# Altium integrated library TL081CD.IntLib: 1 symbol
Pins are listed as number, name and electrical type; pins without a type are passive.

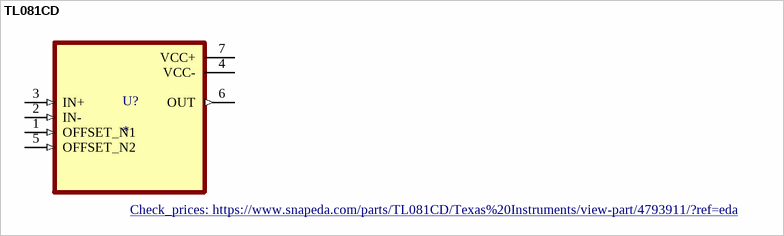
[diagram p0: symbol TL081CD]

## TL081CD
designator U?
High Slew Rate JFET-Input Operational Amplifier 8-SOIC 0 to 70; MP: TL081CD; MF: Texas Instruments; Package: SOIC-8 Texas Instruments; SnapEDA_Link: https://www.snapeda.com/parts/TL081CD/Texas%20Instruments/view-part/4793911/?ref=snap; Availability: Good; Price: None; Value: *; Purchase-URL: https://pricing.snapeda.com/search/part/TL081CD/?ref=eda; Check_prices: https://www.snapeda.com/parts/TL081CD/Texas%20Instruments/view-part/4793911/?ref=eda
footprint SOIC127P599X175-8N
pins: 1 OFFSET_N1 (in), 2 IN- (in), 3 IN+ (in), 4 VCC- (power), 5 OFFSET_N2 (in), 6 OUT (out), 7 VCC+ (power)